# Altium schematic symbol library LM358PE3.SchLib: 1 symbol
Pins are listed as number, name and electrical type; pins without a type are passive.

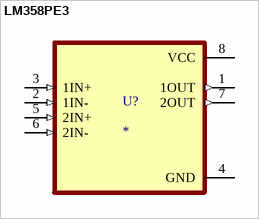
[diagram p0: symbol LM358PE3]

## LM358PE3
designator U?
MP: LM358PE3; Value: *; Package: None; Availability: Unavailable; Price: None
footprint DIP794W45P254L959H508Q8
pins: 1 1OUT (out), 2 1IN- (in), 3 1IN+ (in), 4 GND (power), 5 2IN+ (in), 6 2IN- (in), 7 2OUT (out), 8 VCC (power)